# Altium schematic symbol library 692112030100.SchLib: 1 symbol
Pins are listed as number, name and electrical type; pins without a type are passive.

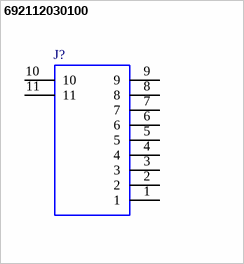
[diagram p0: symbol 692112030100]

## 692112030100
designator J?
Wurth Elektronik Male Right Angle Through Hole Version 3 Type A USB Connector, 30 V ac, 0.25A WR-COM; Geometry.Height: 1mm; Mouser2 Part Number: 710-692112030100; Mouser2 Price/Stock: https://www.mouser.com/Search/Refine.aspx?Keyword=710-692112030100; Manufacturer_Name: Wurth Elektronik; Manufacturer_Part_Number: 692112030100; Datasheet Link: https://componentsearchengine.com//692112030100.pdf
footprint 692112030100
pins: 1, 2, 3, 4, 5, 6, 7, 8, 9, 10, 11